# EAGLE library part LM3404 (library 2000dB)
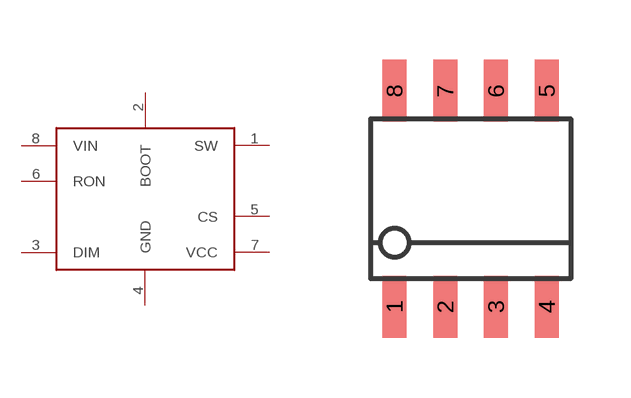
[diagram p5: symbol with the pads of SO-8; footprint SO-8]

Designator prefix -

## LM3404  [SO-8]
1  SW
2  BOOT
3  DIM
4  GND
5  CS
6  RON
7  VCC
8  VIN

## Footprint SO-8 (pad centres in mm)
SO-8
smd 0.6 x 1.55: 1 -1.905,-2.7; 2 -0.635,-2.7; 3 0.635,-2.7; 4 1.905,-2.7; 5 1.905,2.7; 6 0.635,2.7; 7 -0.635,2.7; 8 -1.905,2.7